# Altium footprint library NSC Audio.PcbLib: 147 footprints (part 9 of 10)
Each footprint in its own frame and in the unit in brackets; x right, y up, seen from the top. Pads: shape width x height; smd on the part's side, far side on the other; paste and mask are expansions set on the pad; w line width, h text height; cw(c..) or ccw(c..) is an arc to the next point about the centre after c.
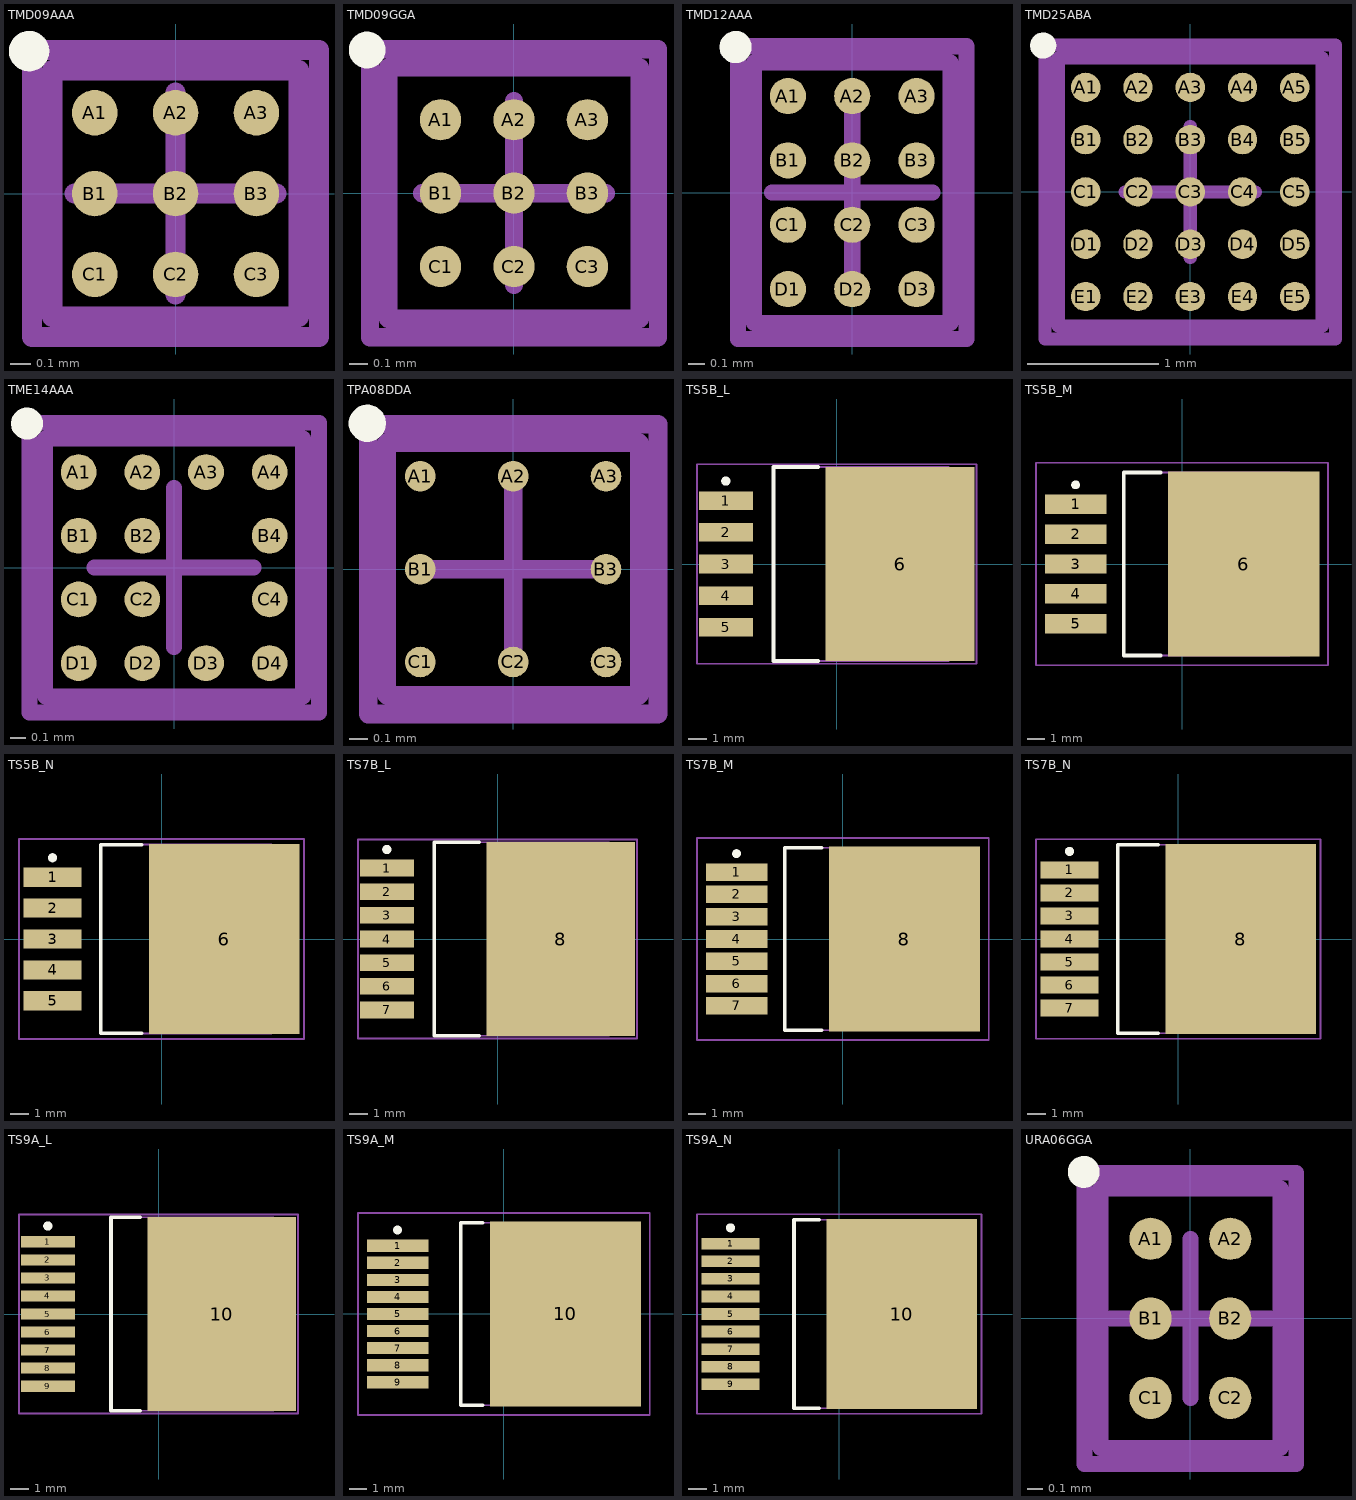
[diagram p8: the footprints below, top view; thin cyan lines are the x and y axes]

## TMD09AAA [mm] "Micro SMD, 9-Leads, Body 1.22x1.22mm, Pitch 0.4mm, NSC Recommended"
height 0.68
pads (9):
  round 0.225 smd paste-0.112 mask+0.05: A1(-0.4,0.4) A2(0,0.4) A3(0.4,0.4) B1(-0.4,0) B2(0,0) B3(0.4,0) C1(-0.4,-0.4) C2(0,-0.4) C3(0.4,-0.4)
Top Overlay:
  circle w0.1: c-0.725,0.705 r0.05
Top Paste:
  circle w0.05: c0.35,-0.075 r0.025
  circle w0.05: c0.5,0.075 r0.025
  circle w0.05: c0.35,0.075 r0.025
  circle w0.05: c0.5,-0.075 r0.025
  circle w0.05: c-0.075,-0.35 r0.025
  circle w0.05: c0.075,-0.5 r0.025
  circle w0.05: c0.075,-0.35 r0.025
  circle w0.05: c-0.075,-0.5 r0.025
  circle w0.05: c-0.35,0.075 r0.025
  circle w0.05: c-0.5,-0.075 r0.025
  circle w0.05: c-0.35,-0.075 r0.025
  circle w0.05: c-0.5,0.075 r0.025
  circle w0.05: c0.075,0.35 r0.025
  circle w0.05: c-0.075,0.5 r0.025
  circle w0.05: c-0.075,0.35 r0.025
  circle w0.05: c0.075,0.5 r0.025
  circle w0.05: c-0.35,0.35 r0.025
  circle w0.05: c-0.5,0.5 r0.025
  circle w0.05: c-0.5,0.35 r0.025
  circle w0.05: c-0.35,0.5 r0.025
  circle w0.05: c0.35,0.35 r0.025
  circle w0.05: c0.5,0.5 r0.025
  circle w0.05: c0.5,0.35 r0.025
  circle w0.05: c0.35,0.5 r0.025
  circle w0.05: c0.35,-0.35 r0.025
  circle w0.05: c0.5,-0.5 r0.025
  circle w0.05: c0.5,-0.35 r0.025
  circle w0.05: c0.35,-0.5 r0.025
  circle w0.05: c-0.35,-0.35 r0.025
  circle w0.05: c-0.5,-0.5 r0.025
  circle w0.05: c-0.5,-0.35 r0.025
  circle w0.05: c-0.35,-0.5 r0.025
  circle w0.05: c0.075,0.075 r0.025
  circle w0.05: c-0.075,-0.075 r0.025
  circle w0.05: c-0.075,0.075 r0.025
  circle w0.05: c0.075,-0.075 r0.025
  region: 0.5,0.075 0.35,0.075 0.35,-0.075 0.5,-0.075
  rectangle: 0.35,-0.125 0.5,-0.075
  region: 0.55,-0.075 0.55,0.075 0.5,0.075 0.5,-0.075
  region: 0.5,0.125 0.35,0.125 0.35,0.075 0.5,0.075
  region: 0.3,0.075 0.3,-0.075 0.35,-0.075 0.35,0.075
  region: 0.075,-0.5 0.075,-0.35 -0.075,-0.35 -0.075,-0.5
  region: -0.125,-0.35 -0.125,-0.5 -0.075,-0.5 -0.075,-0.35
  rectangle: -0.075,-0.55 0.075,-0.5
  region: 0.125,-0.5 0.125,-0.35 0.075,-0.35 0.075,-0.5
  region: 0.075,-0.3 -0.075,-0.3 -0.075,-0.35 0.075,-0.35
  rectangle: -0.5,-0.075 -0.35,0.075
  region: -0.35,0.125 -0.5,0.125 -0.5,0.075 -0.35,0.075
  region: -0.55,0.075 -0.55,-0.075 -0.5,-0.075 -0.5,0.075
  rectangle: -0.5,-0.125 -0.35,-0.075
  region: -0.3,-0.075 -0.3,0.075 -0.35,0.075 -0.35,-0.075
  region: -0.075,0.5 -0.075,0.35 0.075,0.35 0.075,0.5
  region: 0.125,0.35 0.125,0.5 0.075,0.5 0.075,0.35
  region: 0.075,0.55 -0.075,0.55 -0.075,0.5 0.075,0.5
  region: -0.125,0.5 -0.125,0.35 -0.075,0.35 -0.075,0.5
  rectangle: -0.075,0.3 0.075,0.35
  region: -0.5,0.5 -0.5,0.35 -0.35,0.35 -0.35,0.5
  region: -0.3,0.35 -0.3,0.5 -0.35,0.5 -0.35,0.35
  region: -0.35,0.55 -0.5,0.55 -0.5,0.5 -0.35,0.5
  region: -0.55,0.5 -0.55,0.35 -0.5,0.35 -0.5,0.5
  rectangle: -0.5,0.3 -0.35,0.35
  region: 0.35,0.5 0.35,0.35 0.5,0.35 0.5,0.5
  region: 0.35,0.35 0.35,0.5 0.3,0.5 0.3,0.35
  rectangle: 0.35,0.5 0.5,0.55
  region: 0.5,0.5 0.5,0.35 0.55,0.35 0.55,0.5
  region: 0.5,0.35 0.35,0.35 0.35,0.3 0.5,0.3
  region: 0.5,-0.5 0.5,-0.35 0.35,-0.35 0.35,-0.5
  region: 0.3,-0.35 0.3,-0.5 0.35,-0.5 0.35,-0.35
  rectangle: 0.35,-0.55 0.5,-0.5
  region: 0.55,-0.5 0.55,-0.35 0.5,-0.35 0.5,-0.5
  region: 0.5,-0.3 0.35,-0.3 0.35,-0.35 0.5,-0.35
  region: -0.35,-0.5 -0.35,-0.35 -0.5,-0.35 -0.5,-0.5
  region: -0.35,-0.35 -0.35,-0.5 -0.3,-0.5 -0.3,-0.35
  region: -0.35,-0.5 -0.5,-0.5 -0.5,-0.55 -0.35,-0.55
  region: -0.5,-0.5 -0.5,-0.35 -0.55,-0.35 -0.55,-0.5
  rectangle: -0.5,-0.35 -0.35,-0.3
  rectangle: -0.075,-0.125 0.075,-0.075
  region: -0.125,0.075 -0.125,-0.075 -0.075,-0.075 -0.075,0.075
  region: 0.075,0.125 -0.075,0.125 -0.075,0.075 0.075,0.075
  region: 0.125,-0.075 0.125,0.075 0.075,0.075 0.075,-0.075
  region: -0.075,0.075 -0.075,-0.075 0.075,-0.075 0.075,0.075
Mechanical 13:
  lines w0.1: -0.61,-0.61 -0.61,0.61 0.61,0.61 0.61,-0.61 -0.61,-0.61
Mechanical 15:
  lines w0.1: -0.5,0 0.5,0 ; 0,-0.5 0,0.5 ; -0.71,-0.71 -0.71,0.71 0.71,0.71 0.71,-0.71 -0.71,-0.71
3D body: height 0.68, standoff 0, extent -0.609,-0.609 0.609,0.609

## TMD09GGA [mm] "Micro SMD, 9-Leads, Body 1.37x1.37mm, Pitch 0.4mm, NSC Recommended"
height 0.68
pads (9):
  round 0.225 smd paste-0.112 mask+0.05: A1(-0.4,0.4) A2(0,0.4) A3(0.4,0.4) B1(-0.4,0) B2(0,0) B3(0.4,0) C1(-0.4,-0.4) C2(0,-0.4) C3(0.4,-0.4)
Top Overlay:
  circle w0.1: c-0.8,0.78 r0.05
Top Paste:
  circle w0.05: c0.075,-0.075 r0.025
  circle w0.05: c-0.075,0.075 r0.025
  circle w0.05: c-0.075,-0.075 r0.025
  circle w0.05: c0.075,0.075 r0.025
  circle w0.05: c-0.35,0.35 r0.025
  circle w0.05: c-0.5,0.5 r0.025
  circle w0.05: c-0.5,0.35 r0.025
  circle w0.05: c-0.35,0.5 r0.025
  circle w0.05: c0.35,0.35 r0.025
  circle w0.05: c0.5,0.5 r0.025
  circle w0.05: c0.5,0.35 r0.025
  circle w0.05: c0.35,0.5 r0.025
  circle w0.05: c0.35,-0.35 r0.025
  circle w0.05: c0.5,-0.5 r0.025
  circle w0.05: c0.5,-0.35 r0.025
  circle w0.05: c0.35,-0.5 r0.025
  circle w0.05: c-0.35,-0.35 r0.025
  circle w0.05: c-0.5,-0.5 r0.025
  circle w0.05: c-0.5,-0.35 r0.025
  circle w0.05: c-0.35,-0.5 r0.025
  circle w0.05: c0.5,-0.075 r0.025
  circle w0.05: c0.35,0.075 r0.025
  circle w0.05: c0.5,0.075 r0.025
  circle w0.05: c0.35,-0.075 r0.025
  circle w0.05: c0.075,0.5 r0.025
  circle w0.05: c-0.075,0.35 r0.025
  circle w0.05: c-0.075,0.5 r0.025
  circle w0.05: c0.075,0.35 r0.025
  circle w0.05: c-0.5,0.075 r0.025
  circle w0.05: c-0.35,-0.075 r0.025
  circle w0.05: c-0.5,-0.075 r0.025
  circle w0.05: c-0.35,0.075 r0.025
  circle w0.05: c-0.075,-0.5 r0.025
  circle w0.05: c0.075,-0.35 r0.025
  circle w0.05: c0.075,-0.5 r0.025
  circle w0.05: c-0.075,-0.35 r0.025
  region: -0.075,0.075 -0.075,-0.075 0.075,-0.075 0.075,0.075
  region: 0.125,-0.075 0.125,0.075 0.075,0.075 0.075,-0.075
  region: 0.075,0.125 -0.075,0.125 -0.075,0.075 0.075,0.075
  region: -0.125,0.075 -0.125,-0.075 -0.075,-0.075 -0.075,0.075
  rectangle: -0.075,-0.125 0.075,-0.075
  region: -0.5,0.5 -0.5,0.35 -0.35,0.35 -0.35,0.5
  region: -0.3,0.35 -0.3,0.5 -0.35,0.5 -0.35,0.35
  region: -0.35,0.55 -0.5,0.55 -0.5,0.5 -0.35,0.5
  region: -0.55,0.5 -0.55,0.35 -0.5,0.35 -0.5,0.5
  rectangle: -0.5,0.3 -0.35,0.35
  region: 0.35,0.5 0.35,0.35 0.5,0.35 0.5,0.5
  region: 0.35,0.35 0.35,0.5 0.3,0.5 0.3,0.35
  rectangle: 0.35,0.5 0.5,0.55
  region: 0.5,0.5 0.5,0.35 0.55,0.35 0.55,0.5
  region: 0.5,0.35 0.35,0.35 0.35,0.3 0.5,0.3
  region: 0.5,-0.5 0.5,-0.35 0.35,-0.35 0.35,-0.5
  region: 0.3,-0.35 0.3,-0.5 0.35,-0.5 0.35,-0.35
  rectangle: 0.35,-0.55 0.5,-0.5
  region: 0.55,-0.5 0.55,-0.35 0.5,-0.35 0.5,-0.5
  region: 0.5,-0.3 0.35,-0.3 0.35,-0.35 0.5,-0.35
  region: -0.35,-0.5 -0.35,-0.35 -0.5,-0.35 -0.5,-0.5
  region: -0.35,-0.35 -0.35,-0.5 -0.3,-0.5 -0.3,-0.35
  region: -0.35,-0.5 -0.5,-0.5 -0.5,-0.55 -0.35,-0.55
  region: -0.5,-0.5 -0.5,-0.35 -0.55,-0.35 -0.55,-0.5
  rectangle: -0.5,-0.35 -0.35,-0.3
  region: 0.3,0.075 0.3,-0.075 0.35,-0.075 0.35,0.075
  region: 0.5,0.125 0.35,0.125 0.35,0.075 0.5,0.075
  region: 0.55,-0.075 0.55,0.075 0.5,0.075 0.5,-0.075
  rectangle: 0.35,-0.125 0.5,-0.075
  region: 0.5,0.075 0.35,0.075 0.35,-0.075 0.5,-0.075
  rectangle: -0.075,0.3 0.075,0.35
  region: -0.125,0.5 -0.125,0.35 -0.075,0.35 -0.075,0.5
  region: 0.075,0.55 -0.075,0.55 -0.075,0.5 0.075,0.5
  region: 0.125,0.35 0.125,0.5 0.075,0.5 0.075,0.35
  region: -0.075,0.5 -0.075,0.35 0.075,0.35 0.075,0.5
  region: -0.3,-0.075 -0.3,0.075 -0.35,0.075 -0.35,-0.075
  rectangle: -0.5,-0.125 -0.35,-0.075
  region: -0.55,0.075 -0.55,-0.075 -0.5,-0.075 -0.5,0.075
  region: -0.35,0.125 -0.5,0.125 -0.5,0.075 -0.35,0.075
  rectangle: -0.5,-0.075 -0.35,0.075
  region: 0.075,-0.3 -0.075,-0.3 -0.075,-0.35 0.075,-0.35
  region: 0.125,-0.5 0.125,-0.35 0.075,-0.35 0.075,-0.5
  rectangle: -0.075,-0.55 0.075,-0.5
  region: -0.125,-0.35 -0.125,-0.5 -0.075,-0.5 -0.075,-0.35
  region: 0.075,-0.5 0.075,-0.35 -0.075,-0.35 -0.075,-0.5
Mechanical 13:
  lines w0.1: -0.685,-0.685 -0.685,0.685 0.685,0.685 0.685,-0.685 -0.685,-0.685
Mechanical 15:
  lines w0.1: -0.5,0 0.5,0 ; 0,-0.5 0,0.5 ; -0.785,-0.785 -0.785,0.785 0.785,0.785 0.785,-0.785 -0.785,-0.785
3D body: height 0.68, standoff 0, extent -0.684,-0.684 0.684,0.684

## TMD12AAA [mm] "Micro SMD, 12-Leads, Body 1.62x1.22mm, Pitch 0.4mm, NSC Recommended"
height 0.68
pads (12):
  round 0.225 smd paste-0.112 mask+0.05: A1(-0.4,0.6) A2(0,0.6) A3(0.4,0.6) B1(-0.4,0.2) B2(0,0.2) B3(0.4,0.2) C1(-0.4,-0.2) C2(0,-0.2) C3(0.4,-0.2) D1(-0.4,-0.6) D2(0,-0.6) D3(0.4,-0.6)
Top Overlay:
  circle w0.1: c-0.725,0.905 r0.05
Top Paste:
  circle w0.05: c0.075,-0.275 r0.025
  circle w0.05: c-0.075,-0.125 r0.025
  circle w0.05: c-0.075,-0.275 r0.025
  circle w0.05: c0.075,-0.125 r0.025
  circle w0.05: c0.075,0.125 r0.025
  circle w0.05: c-0.075,0.275 r0.025
  circle w0.05: c-0.075,0.125 r0.025
  circle w0.05: c0.075,0.275 r0.025
  circle w0.05: c-0.35,-0.125 r0.025
  circle w0.05: c-0.5,-0.275 r0.025
  circle w0.05: c-0.35,-0.275 r0.025
  circle w0.05: c-0.5,-0.125 r0.025
  circle w0.05: c-0.35,0.275 r0.025
  circle w0.05: c-0.5,0.125 r0.025
  circle w0.05: c-0.35,0.125 r0.025
  circle w0.05: c-0.5,0.275 r0.025
  circle w0.05: c0.075,0.55 r0.025
  circle w0.05: c-0.075,0.7 r0.025
  circle w0.05: c-0.075,0.55 r0.025
  circle w0.05: c0.075,0.7 r0.025
  circle w0.05: c0.35,0.125 r0.025
  circle w0.05: c0.5,0.275 r0.025
  circle w0.05: c0.35,0.275 r0.025
  circle w0.05: c0.5,0.125 r0.025
  circle w0.05: c0.35,-0.275 r0.025
  circle w0.05: c0.5,-0.125 r0.025
  circle w0.05: c0.35,-0.125 r0.025
  circle w0.05: c0.5,-0.275 r0.025
  circle w0.05: c-0.075,-0.55 r0.025
  circle w0.05: c0.075,-0.7 r0.025
  circle w0.05: c0.075,-0.55 r0.025
  circle w0.05: c-0.075,-0.7 r0.025
  circle w0.05: c-0.35,-0.55 r0.025
  circle w0.05: c-0.5,-0.7 r0.025
  circle w0.05: c-0.5,-0.55 r0.025
  circle w0.05: c-0.35,-0.7 r0.025
  circle w0.05: c-0.35,0.55 r0.025
  circle w0.05: c-0.5,0.7 r0.025
  circle w0.05: c-0.5,0.55 r0.025
  circle w0.05: c-0.35,0.7 r0.025
  circle w0.05: c0.35,0.55 r0.025
  circle w0.05: c0.5,0.7 r0.025
  circle w0.05: c0.5,0.55 r0.025
  circle w0.05: c0.35,0.7 r0.025
  circle w0.05: c0.35,-0.55 r0.025
  circle w0.05: c0.5,-0.7 r0.025
  circle w0.05: c0.5,-0.55 r0.025
  circle w0.05: c0.35,-0.7 r0.025
  region: -0.075,-0.125 -0.075,-0.275 0.075,-0.275 0.075,-0.125
  region: 0.125,-0.275 0.125,-0.125 0.075,-0.125 0.075,-0.275
  region: 0.075,-0.075 -0.075,-0.075 -0.075,-0.125 0.075,-0.125
  region: -0.125,-0.125 -0.125,-0.275 -0.075,-0.275 -0.075,-0.125
  rectangle: -0.075,-0.325 0.075,-0.275
  region: -0.075,0.275 -0.075,0.125 0.075,0.125 0.075,0.275
  region: 0.125,0.125 0.125,0.275 0.075,0.275 0.075,0.125
  region: 0.075,0.325 -0.075,0.325 -0.075,0.275 0.075,0.275
  region: -0.125,0.275 -0.125,0.125 -0.075,0.125 -0.075,0.275
  rectangle: -0.075,0.075 0.075,0.125
  rectangle: -0.5,-0.275 -0.35,-0.125
  region: -0.35,-0.075 -0.5,-0.075 -0.5,-0.125 -0.35,-0.125
  region: -0.55,-0.125 -0.55,-0.275 -0.5,-0.275 -0.5,-0.125
  rectangle: -0.5,-0.325 -0.35,-0.275
  region: -0.3,-0.275 -0.3,-0.125 -0.35,-0.125 -0.35,-0.275
  rectangle: -0.5,0.125 -0.35,0.275
  region: -0.35,0.325 -0.5,0.325 -0.5,0.275 -0.35,0.275
  region: -0.55,0.275 -0.55,0.125 -0.5,0.125 -0.5,0.275
  rectangle: -0.5,0.075 -0.35,0.125
  region: -0.3,0.125 -0.3,0.275 -0.35,0.275 -0.35,0.125
  region: -0.075,0.7 -0.075,0.55 0.075,0.55 0.075,0.7
  region: 0.125,0.55 0.125,0.7 0.075,0.7 0.075,0.55
  region: 0.075,0.75 -0.075,0.75 -0.075,0.7 0.075,0.7
  region: -0.125,0.7 -0.125,0.55 -0.075,0.55 -0.075,0.7
  rectangle: -0.075,0.5 0.075,0.55
  region: 0.5,0.275 0.35,0.275 0.35,0.125 0.5,0.125
  rectangle: 0.35,0.075 0.5,0.125
  region: 0.55,0.125 0.55,0.275 0.5,0.275 0.5,0.125
  region: 0.5,0.325 0.35,0.325 0.35,0.275 0.5,0.275
  region: 0.3,0.275 0.3,0.125 0.35,0.125 0.35,0.275
  region: 0.5,-0.125 0.35,-0.125 0.35,-0.275 0.5,-0.275
  rectangle: 0.35,-0.325 0.5,-0.275
  region: 0.55,-0.275 0.55,-0.125 0.5,-0.125 0.5,-0.275
  region: 0.5,-0.075 0.35,-0.075 0.35,-0.125 0.5,-0.125
  region: 0.3,-0.125 0.3,-0.275 0.35,-0.275 0.35,-0.125
  region: 0.075,-0.7 0.075,-0.55 -0.075,-0.55 -0.075,-0.7
  region: -0.125,-0.55 -0.125,-0.7 -0.075,-0.7 -0.075,-0.55
  rectangle: -0.075,-0.75 0.075,-0.7
  region: 0.125,-0.7 0.125,-0.55 0.075,-0.55 0.075,-0.7
  region: 0.075,-0.5 -0.075,-0.5 -0.075,-0.55 0.075,-0.55
  region: -0.35,-0.7 -0.35,-0.55 -0.5,-0.55 -0.5,-0.7
  region: -0.35,-0.55 -0.35,-0.7 -0.3,-0.7 -0.3,-0.55
  region: -0.35,-0.7 -0.5,-0.7 -0.5,-0.75 -0.35,-0.75
  region: -0.5,-0.7 -0.5,-0.55 -0.55,-0.55 -0.55,-0.7
  rectangle: -0.5,-0.55 -0.35,-0.5
  region: -0.5,0.7 -0.5,0.55 -0.35,0.55 -0.35,0.7
  region: -0.3,0.55 -0.3,0.7 -0.35,0.7 -0.35,0.55
  region: -0.35,0.75 -0.5,0.75 -0.5,0.7 -0.35,0.7
  region: -0.55,0.7 -0.55,0.55 -0.5,0.55 -0.5,0.7
  rectangle: -0.5,0.5 -0.35,0.55
  region: 0.35,0.7 0.35,0.55 0.5,0.55 0.5,0.7
  region: 0.35,0.55 0.35,0.7 0.3,0.7 0.3,0.55
  rectangle: 0.35,0.7 0.5,0.75
  region: 0.5,0.7 0.5,0.55 0.55,0.55 0.55,0.7
  region: 0.5,0.55 0.35,0.55 0.35,0.5 0.5,0.5
  region: 0.5,-0.7 0.5,-0.55 0.35,-0.55 0.35,-0.7
  region: 0.3,-0.55 0.3,-0.7 0.35,-0.7 0.35,-0.55
  rectangle: 0.35,-0.75 0.5,-0.7
  region: 0.55,-0.7 0.55,-0.55 0.5,-0.55 0.5,-0.7
  region: 0.5,-0.5 0.35,-0.5 0.35,-0.55 0.5,-0.55
Mechanical 13:
  lines w0.1: -0.61,-0.81 0.61,-0.81 0.61,0.81 -0.61,0.81 -0.61,-0.81
Mechanical 15:
  lines w0.1: -0.5,0 0.5,0 ; 0,-0.5 0,0.5 ; -0.71,-0.91 0.71,-0.91 0.71,0.91 -0.71,0.91 -0.71,-0.91
3D body: height 0.68, standoff 0, extent -0.609,-0.809 0.609,0.809

## TMD25ABA [mm] "Micro SMD, 25-Leads, Body 2.05x2.02mm, Pitch 0.4mm, NSC Recommended"
height 0.68
pads (25):
  round 0.225 smd paste-0.112 mask+0.05: A1(-0.8,0.8) A2(-0.4,0.8) A3(0,0.8) A4(0.4,0.8) A5(0.8,0.8) B1(-0.8,0.4) B2(-0.4,0.4) B3(0,0.4) B4(0.4,0.4) B5(0.8,0.4) C1(-0.8,0) C2(-0.4,0) C3(0,0) C4(0.4,0) C5(0.8,0) D1(-0.8,-0.4) D2(-0.4,-0.4) D3(0,-0.4) D4(0.4,-0.4) D5(0.8,-0.4) E1(-0.8,-0.8) E2(-0.4,-0.8) E3(0,-0.8) E4(0.4,-0.8) E5(0.8,-0.8)
Top Overlay:
  circle w0.1: c-1.125,1.12 r0.05
Top Paste:
  drawing of 225 lines, arcs and shapes, not listed
Mechanical 13:
  lines w0.1: -1.01,-1.025 -1.01,1.025 1.01,1.025 1.01,-1.025 -1.01,-1.025
Mechanical 15:
  lines w0.1: -0.5,0 0.5,0 ; 0,-0.5 0,0.5 ; -1.11,-1.125 -1.11,1.125 1.11,1.125 1.11,-1.125 -1.11,-1.125
3D body: height 0.68, standoff 0, extent -1.009,-1.024 1.009,1.024

## TME14AAA [mm] "Micro SMD, 14-Leads, Body 1.62x1.62mm, Pitch 0.4mm, NSC Recommended"
height 0.68
pads (14):
  round 0.225 smd paste-0.112 mask+0.05: A1(-0.6,0.6) A2(-0.2,0.6) A3(0.2,0.6) A4(0.6,0.6) B1(-0.6,0.2) B2(-0.2,0.2) B4(0.6,0.2) C1(-0.6,-0.2) C2(-0.2,-0.2) C4(0.6,-0.2) D1(-0.6,-0.6) D2(-0.2,-0.6) D3(0.2,-0.6) D4(0.6,-0.6)
Top Overlay:
  circle w0.1: c-0.925,0.905 r0.05
Top Paste:
  circle w0.05: c-0.125,-0.275 r0.025
  circle w0.05: c-0.275,-0.125 r0.025
  circle w0.05: c-0.275,-0.275 r0.025
  circle w0.05: c-0.125,-0.125 r0.025
  circle w0.05: c-0.125,0.125 r0.025
  circle w0.05: c-0.275,0.275 r0.025
  circle w0.05: c-0.275,0.125 r0.025
  circle w0.05: c-0.125,0.275 r0.025
  circle w0.05: c0.275,-0.55 r0.025
  circle w0.05: c0.125,-0.7 r0.025
  circle w0.05: c0.125,-0.55 r0.025
  circle w0.05: c0.275,-0.7 r0.025
  circle w0.05: c-0.125,0.55 r0.025
  circle w0.05: c-0.275,0.7 r0.025
  circle w0.05: c-0.275,0.55 r0.025
  circle w0.05: c-0.125,0.7 r0.025
  circle w0.05: c0.275,0.55 r0.025
  circle w0.05: c0.125,0.7 r0.025
  circle w0.05: c0.125,0.55 r0.025
  circle w0.05: c0.275,0.7 r0.025
  circle w0.05: c0.55,0.125 r0.025
  circle w0.05: c0.7,0.275 r0.025
  circle w0.05: c0.55,0.275 r0.025
  circle w0.05: c0.7,0.125 r0.025
  circle w0.05: c0.55,-0.275 r0.025
  circle w0.05: c0.7,-0.125 r0.025
  circle w0.05: c0.55,-0.125 r0.025
  circle w0.05: c0.7,-0.275 r0.025
  circle w0.05: c-0.275,-0.55 r0.025
  circle w0.05: c-0.125,-0.7 r0.025
  circle w0.05: c-0.125,-0.55 r0.025
  circle w0.05: c-0.275,-0.7 r0.025
  circle w0.05: c-0.55,-0.125 r0.025
  circle w0.05: c-0.7,-0.275 r0.025
  circle w0.05: c-0.55,-0.275 r0.025
  circle w0.05: c-0.7,-0.125 r0.025
  circle w0.05: c-0.55,0.275 r0.025
  circle w0.05: c-0.7,0.125 r0.025
  circle w0.05: c-0.55,0.125 r0.025
  circle w0.05: c-0.7,0.275 r0.025
  circle w0.05: c0.55,-0.55 r0.025
  circle w0.05: c0.7,-0.7 r0.025
  circle w0.05: c0.7,-0.55 r0.025
  circle w0.05: c0.55,-0.7 r0.025
  circle w0.05: c-0.55,-0.55 r0.025
  circle w0.05: c-0.7,-0.7 r0.025
  circle w0.05: c-0.7,-0.55 r0.025
  circle w0.05: c-0.55,-0.7 r0.025
  circle w0.05: c-0.55,0.55 r0.025
  circle w0.05: c-0.7,0.7 r0.025
  circle w0.05: c-0.7,0.55 r0.025
  circle w0.05: c-0.55,0.7 r0.025
  circle w0.05: c0.55,0.55 r0.025
  circle w0.05: c0.7,0.7 r0.025
  circle w0.05: c0.7,0.55 r0.025
  circle w0.05: c0.55,0.7 r0.025
  region: -0.275,-0.125 -0.275,-0.275 -0.125,-0.275 -0.125,-0.125
  region: -0.075,-0.275 -0.075,-0.125 -0.125,-0.125 -0.125,-0.275
  region: -0.125,-0.075 -0.275,-0.075 -0.275,-0.125 -0.125,-0.125
  region: -0.325,-0.125 -0.325,-0.275 -0.275,-0.275 -0.275,-0.125
  rectangle: -0.275,-0.325 -0.125,-0.275
  region: -0.275,0.275 -0.275,0.125 -0.125,0.125 -0.125,0.275
  region: -0.075,0.125 -0.075,0.275 -0.125,0.275 -0.125,0.125
  region: -0.125,0.325 -0.275,0.325 -0.275,0.275 -0.125,0.275
  region: -0.325,0.275 -0.325,0.125 -0.275,0.125 -0.275,0.275
  rectangle: -0.275,0.075 -0.125,0.125
  region: 0.275,-0.7 0.275,-0.55 0.125,-0.55 0.125,-0.7
  region: 0.275,-0.55 0.275,-0.7 0.325,-0.7 0.325,-0.55
  region: 0.275,-0.7 0.125,-0.7 0.125,-0.75 0.275,-0.75
  region: 0.125,-0.7 0.125,-0.55 0.075,-0.55 0.075,-0.7
  rectangle: 0.125,-0.55 0.275,-0.5
  region: -0.275,0.7 -0.275,0.55 -0.125,0.55 -0.125,0.7
  region: -0.075,0.55 -0.075,0.7 -0.125,0.7 -0.125,0.55
  region: -0.125,0.75 -0.275,0.75 -0.275,0.7 -0.125,0.7
  region: -0.325,0.7 -0.325,0.55 -0.275,0.55 -0.275,0.7
  rectangle: -0.275,0.5 -0.125,0.55
  region: 0.125,0.7 0.125,0.55 0.275,0.55 0.275,0.7
  region: 0.325,0.55 0.325,0.7 0.275,0.7 0.275,0.55
  region: 0.275,0.75 0.125,0.75 0.125,0.7 0.275,0.7
  region: 0.075,0.7 0.075,0.55 0.125,0.55 0.125,0.7
  rectangle: 0.125,0.5 0.275,0.55
  region: 0.7,0.275 0.55,0.275 0.55,0.125 0.7,0.125
  rectangle: 0.55,0.075 0.7,0.125
  region: 0.75,0.125 0.75,0.275 0.7,0.275 0.7,0.125
  region: 0.7,0.325 0.55,0.325 0.55,0.275 0.7,0.275
  region: 0.5,0.275 0.5,0.125 0.55,0.125 0.55,0.275
  region: 0.7,-0.125 0.55,-0.125 0.55,-0.275 0.7,-0.275
  rectangle: 0.55,-0.325 0.7,-0.275
  region: 0.75,-0.275 0.75,-0.125 0.7,-0.125 0.7,-0.275
  region: 0.7,-0.075 0.55,-0.075 0.55,-0.125 0.7,-0.125
  region: 0.5,-0.125 0.5,-0.275 0.55,-0.275 0.55,-0.125
  region: -0.125,-0.7 -0.125,-0.55 -0.275,-0.55 -0.275,-0.7
  region: -0.325,-0.55 -0.325,-0.7 -0.275,-0.7 -0.275,-0.55
  rectangle: -0.275,-0.75 -0.125,-0.7
  region: -0.075,-0.7 -0.075,-0.55 -0.125,-0.55 -0.125,-0.7
  region: -0.125,-0.5 -0.275,-0.5 -0.275,-0.55 -0.125,-0.55
  rectangle: -0.7,-0.275 -0.55,-0.125
  region: -0.55,-0.075 -0.7,-0.075 -0.7,-0.125 -0.55,-0.125
  region: -0.75,-0.125 -0.75,-0.275 -0.7,-0.275 -0.7,-0.125
  rectangle: -0.7,-0.325 -0.55,-0.275
  region: -0.5,-0.275 -0.5,-0.125 -0.55,-0.125 -0.55,-0.275
  rectangle: -0.7,0.125 -0.55,0.275
  region: -0.55,0.325 -0.7,0.325 -0.7,0.275 -0.55,0.275
  region: -0.75,0.275 -0.75,0.125 -0.7,0.125 -0.7,0.275
  rectangle: -0.7,0.075 -0.55,0.125
  region: -0.5,0.125 -0.5,0.275 -0.55,0.275 -0.55,0.125
  region: 0.7,-0.7 0.7,-0.55 0.55,-0.55 0.55,-0.7
  region: 0.5,-0.55 0.5,-0.7 0.55,-0.7 0.55,-0.55
  rectangle: 0.55,-0.75 0.7,-0.7
  region: 0.75,-0.7 0.75,-0.55 0.7,-0.55 0.7,-0.7
  region: 0.7,-0.5 0.55,-0.5 0.55,-0.55 0.7,-0.55
  region: -0.55,-0.7 -0.55,-0.55 -0.7,-0.55 -0.7,-0.7
  region: -0.55,-0.55 -0.55,-0.7 -0.5,-0.7 -0.5,-0.55
  region: -0.55,-0.7 -0.7,-0.7 -0.7,-0.75 -0.55,-0.75
  region: -0.7,-0.7 -0.7,-0.55 -0.75,-0.55 -0.75,-0.7
  rectangle: -0.7,-0.55 -0.55,-0.5
  region: -0.7,0.7 -0.7,0.55 -0.55,0.55 -0.55,0.7
  region: -0.5,0.55 -0.5,0.7 -0.55,0.7 -0.55,0.55
  region: -0.55,0.75 -0.7,0.75 -0.7,0.7 -0.55,0.7
  region: -0.75,0.7 -0.75,0.55 -0.7,0.55 -0.7,0.7
  rectangle: -0.7,0.5 -0.55,0.55
  region: 0.55,0.7 0.55,0.55 0.7,0.55 0.7,0.7
  region: 0.55,0.55 0.55,0.7 0.5,0.7 0.5,0.55
  rectangle: 0.55,0.7 0.7,0.75
  region: 0.7,0.7 0.7,0.55 0.75,0.55 0.75,0.7
  region: 0.7,0.55 0.55,0.55 0.55,0.5 0.7,0.5
Mechanical 13:
  lines w0.1: -0.81,-0.81 -0.81,0.81 0.81,0.81 0.81,-0.81 -0.81,-0.81
Mechanical 15:
  lines w0.1: -0.5,0 0.5,0 ; 0,-0.5 0,0.5 ; -0.91,-0.91 -0.91,0.91 0.91,0.91 0.91,-0.91 -0.91,-0.91
3D body: height 0.68, standoff 0, extent -0.809,-0.809 0.809,0.809

## TPA08DDA [mm] "Micro SMD, 8-Leads, Body 1.36x1.36mm, Pitch 0.5mm, NSC Recommended"
height 0.58
pads (8):
  round 0.165 smd paste-0.082 mask+0.05: A1(-0.5,0.5) A2(0,0.5) A3(0.5,0.5) B1(-0.5,0) B3(0.5,0) C1(-0.5,-0.5) C2(0,-0.5) C3(0.5,-0.5)
Top Overlay:
  circle w0.1: c-0.785,0.785 r0.05
Top Paste:
  circle w0.05: c-0.425,-0.1 r0.025
  circle w0.05: c-0.625,0.1 r0.025
  circle w0.05: c-0.625,-0.1 r0.025
  circle w0.05: c-0.425,0.1 r0.025
  circle w0.05: c0.625,0.1 r0.025
  circle w0.05: c0.425,-0.1 r0.025
  circle w0.05: c0.425,0.1 r0.025
  circle w0.05: c0.625,-0.1 r0.025
  circle w0.05: c0.625,-0.625 r0.025
  circle w0.05: c0.425,-0.425 r0.025
  circle w0.05: c0.425,-0.625 r0.025
  circle w0.05: c0.625,-0.425 r0.025
  circle w0.05: c-0.425,-0.625 r0.025
  circle w0.05: c-0.625,-0.425 r0.025
  circle w0.05: c-0.625,-0.625 r0.025
  circle w0.05: c-0.425,-0.425 r0.025
  circle w0.05: c0.1,-0.625 r0.025
  circle w0.05: c-0.1,-0.425 r0.025
  circle w0.05: c-0.1,-0.625 r0.025
  circle w0.05: c0.1,-0.425 r0.025
  circle w0.05: c0.1,0.625 r0.025
  circle w0.05: c-0.1,0.425 r0.025
  circle w0.05: c-0.1,0.625 r0.025
  circle w0.05: c0.1,0.425 r0.025
  circle w0.05: c-0.425,0.625 r0.025
  circle w0.05: c-0.625,0.425 r0.025
  circle w0.05: c-0.625,0.625 r0.025
  circle w0.05: c-0.425,0.425 r0.025
  circle w0.05: c0.625,0.625 r0.025
  circle w0.05: c0.425,0.425 r0.025
  circle w0.05: c0.425,0.625 r0.025
  circle w0.05: c0.625,0.425 r0.025
  rectangle: -0.625,-0.15 -0.425,-0.1
  region: -0.425,0.15 -0.625,0.15 -0.625,0.1 -0.425,0.1
  region: -0.675,0.1 -0.675,-0.1 -0.625,-0.1 -0.625,0.1
  region: -0.625,0.1 -0.625,-0.1 -0.425,-0.1 -0.425,0.1
  region: -0.375,-0.1 -0.375,0.1 -0.425,0.1 -0.425,-0.1
  region: 0.675,-0.1 0.675,0.1 0.625,0.1 0.625,-0.1
  region: 0.425,0.1 0.425,-0.1 0.625,-0.1 0.625,0.1
  region: 0.375,0.1 0.375,-0.1 0.425,-0.1 0.425,0.1
  region: 0.625,0.15 0.425,0.15 0.425,0.1 0.625,0.1
  rectangle: 0.425,-0.15 0.625,-0.1
  rectangle: 0.425,-0.675 0.625,-0.625
  region: 0.625,-0.375 0.425,-0.375 0.425,-0.425 0.625,-0.425
  region: 0.375,-0.425 0.375,-0.625 0.425,-0.625 0.425,-0.425
  region: 0.425,-0.425 0.425,-0.625 0.625,-0.625 0.625,-0.425
  region: 0.675,-0.625 0.675,-0.425 0.625,-0.425 0.625,-0.625
  rectangle: -0.625,-0.675 -0.425,-0.625
  region: -0.425,-0.375 -0.625,-0.375 -0.625,-0.425 -0.425,-0.425
  region: -0.675,-0.425 -0.675,-0.625 -0.625,-0.625 -0.625,-0.425
  region: -0.625,-0.425 -0.625,-0.625 -0.425,-0.625 -0.425,-0.425
  region: -0.375,-0.625 -0.375,-0.425 -0.425,-0.425 -0.425,-0.625
  rectangle: -0.1,-0.675 0.1,-0.625
  region: 0.1,-0.375 -0.1,-0.375 -0.1,-0.425 0.1,-0.425
  region: -0.15,-0.425 -0.15,-0.625 -0.1,-0.625 -0.1,-0.425
  region: -0.1,-0.425 -0.1,-0.625 0.1,-0.625 0.1,-0.425
  region: 0.15,-0.625 0.15,-0.425 0.1,-0.425 0.1,-0.625
  region: 0.15,0.425 0.15,0.625 0.1,0.625 0.1,0.425
  region: -0.1,0.625 -0.1,0.425 0.1,0.425 0.1,0.625
  region: -0.15,0.625 -0.15,0.425 -0.1,0.425 -0.1,0.625
  region: 0.1,0.675 -0.1,0.675 -0.1,0.625 0.1,0.625
  rectangle: -0.1,0.375 0.1,0.425
  region: -0.375,0.425 -0.375,0.625 -0.425,0.625 -0.425,0.425
  region: -0.625,0.625 -0.625,0.425 -0.425,0.425 -0.425,0.625
  region: -0.675,0.625 -0.675,0.425 -0.625,0.425 -0.625,0.625
  region: -0.425,0.675 -0.625,0.675 -0.625,0.625 -0.425,0.625
  rectangle: -0.625,0.375 -0.425,0.425
  region: 0.675,0.425 0.675,0.625 0.625,0.625 0.625,0.425
  region: 0.425,0.625 0.425,0.425 0.625,0.425 0.625,0.625
  region: 0.375,0.625 0.375,0.425 0.425,0.425 0.425,0.625
  region: 0.625,0.675 0.425,0.675 0.425,0.625 0.625,0.625
  rectangle: 0.425,0.375 0.625,0.425
Mechanical 13:
  lines w0.1: -0.68,-0.68 -0.68,0.68 0.68,0.68 0.68,-0.68 -0.68,-0.68
Mechanical 15:
  lines w0.1: -0.5,0 0.5,0 ; 0,-0.5 0,0.5 ; -0.78,-0.78 -0.78,0.78 0.78,0.78 0.78,-0.78 -0.78,-0.78
3D body: height 0.58, standoff 0, extent -0.679,-0.679 0.679,0.679

## TS5B_L [mm] "D2-PAK, 6-Leads, Body 8.6x10.2mm, Pitch 1.7mm, Lead Span 14.1mm, IPC High Density"
height 4.65
pads (6):
  rect 2.9x1 smd: 1(-5.95,3.4) 2(-5.95,1.7) 3(-5.95,0) 4(-5.95,-1.7) 5(-5.95,-3.4)
  rect 8x10.4 smd: 6(3.4,0)
Top Overlay:
  circle w0.25: c-5.95,4.45 r0.125
  lines w0.2: -1,-5.2 -3.4,-5.2 -3.4,5.2 -1,5.2
Mechanical 13:
  lines w0.1: -3.4,-5.2 -3.4,5.2 6,5.2 6,-5.2 -3.4,-5.2
Mechanical 15:
  lines w0.1: -0.5,0 0.5,0 ; 0,-0.5 0,0.5 ; -7.5,-5.35 -7.5,5.35 7.5,5.35 7.5,-5.35 -7.5,-5.35
3D body: height 4.65, standoff 0, extent -3.4,-5.2 6,5.2

## TS5B_M [mm] "D2-PAK, 6-Leads, Body 8.6x10.2mm, Pitch 1.7mm, Lead Span 14.1mm, IPC Low Density"
height 4.65
pads (6):
  rect 3.5x1.1 smd: 1(-6.05,3.4) 2(-6.05,1.7) 3(-6.05,0) 4(-6.05,-1.7) 5(-6.05,-3.4)
  rect 8.6x10.5 smd: 6(3.5,0)
Top Overlay:
  circle w0.25: c-6.05,4.5 r0.125
  lines w0.2: -1.2,-5.2 -3.3,-5.2 -3.3,5.2 -1.2,5.2
Mechanical 13:
  lines w0.1: -3.3,-5.2 6.1,-5.2 6.1,5.2 -3.3,5.2 -3.3,-5.2
Mechanical 15:
  lines w0.1: -0.5,0 0.5,0 ; 0,-0.5 0,0.5 ; -8.3,-5.75 8.3,-5.75 8.3,5.75 -8.3,5.75 -8.3,-5.75
3D body: height 4.65, standoff 0, extent -3.3,-5.2 6.1,5.2

## TS5B_N [mm] "D2-PAK, 6-Leads, Body 8.6x10.2mm, Pitch 1.7mm, Lead Span 14.1mm, IPC Medium Density"
height 4.65
pads (6):
  rect 3.2x1.05 smd: 1(-6,3.4) 2(-6,1.7) 3(-6,0) 4(-6,-1.7) 5(-6,-3.4)
  rect 8.3x10.45 smd: 6(3.45,0)
Top Overlay:
  circle w0.25: c-6,4.475 r0.125
  lines w0.2: -1.1,-5.2 -3.35,-5.2 -3.35,5.2 -1.1,5.2
Mechanical 13:
  lines w0.1: -3.35,-5.2 6.05,-5.2 6.05,5.2 -3.35,5.2 -3.35,-5.2
Mechanical 15:
  lines w0.1: -0.5,0 0.5,0 ; 0,-0.5 0,0.5 ; -7.85,-5.5 7.85,-5.5 7.85,5.5 -7.85,5.5 -7.85,-5.5
3D body: height 4.65, standoff 0, extent -3.35,-5.2 6.05,5.2

## TS7B_L [mm] "D2-PAK, 8-Leads, Body 8.6x10.2mm, Pitch 1.27mm, Lead Span 14.1mm, IPC High Density"
height 4.64
pads (8):
  rect 2.9x0.9 smd: 1(-5.95,3.81) 2(-5.95,2.54) 3(-5.95,1.27) 4(-5.95,0) 5(-5.95,-1.27) 6(-5.95,-2.54) 7(-5.95,-3.81)
  rect 8x10.45 smd: 8(3.4,0)
Top Overlay:
  circle w0.25: c-5.95,4.81 r0.125
  lines w0.2: -1,-5.2 -3.4,-5.2 -3.4,5.2 -1,5.2
Mechanical 13:
  lines w0.1: -3.4,-5.2 -3.4,5.2 6,5.2 6,-5.2 -3.4,-5.2
Mechanical 15:
  lines w0.1: -0.5,0 0.5,0 ; 0,-0.5 0,0.5 ; -7.5,-5.35 -7.5,5.35 7.5,5.35 7.5,-5.35 -7.5,-5.35
3D body: height 4.64, standoff 0, extent -3.4,-5.2 6,5.2

## TS7B_M [mm] "D2-PAK, 8-Leads, Body 8.6x10.2mm, Pitch 1.27mm, Lead Span 14.1mm, IPC Low Density"
height 4.64
pads (8):
  rect 3.5x1 smd: 1(-6.05,3.81) 2(-6.05,2.54) 3(-6.05,1.27) 4(-6.05,0) 5(-6.05,-1.27) 6(-6.05,-2.54) 7(-6.05,-3.81)
  rect 8.6x10.55 smd: 8(3.5,0)
Top Overlay:
  circle w0.25: c-6.05,4.86 r0.125
  lines w0.2: -1.2,-5.2 -3.3,-5.2 -3.3,5.2 -1.2,5.2
Mechanical 13:
  lines w0.1: -3.3,-5.2 -3.3,5.2 6.1,5.2 6.1,-5.2 -3.3,-5.2
Mechanical 15:
  lines w0.1: -0.5,0 0.5,0 ; 0,-0.5 0,0.5 ; -8.3,-5.75 -8.3,5.75 8.3,5.75 8.3,-5.75 -8.3,-5.75
3D body: height 4.64, standoff 0, extent -3.3,-5.2 6.1,5.2

## TS7B_N [mm] "D2-PAK, 8-Leads, Body 8.6x10.2mm, Pitch 1.27mm, Lead Span 14.1mm, IPC Medium Density"
height 4.64
pads (8):
  rect 3.2x0.95 smd: 1(-6,3.81) 2(-6,2.54) 3(-6,1.27) 4(-6,0) 5(-6,-1.27) 6(-6,-2.54) 7(-6,-3.81)
  rect 8.3x10.5 smd: 8(3.45,0)
Top Overlay:
  circle w0.25: c-6,4.835 r0.125
  lines w0.2: -1.1,-5.2 -3.35,-5.2 -3.35,5.2 -1.1,5.2
Mechanical 13:
  lines w0.1: -3.35,-5.2 -3.35,5.2 6.05,5.2 6.05,-5.2 -3.35,-5.2
Mechanical 15:
  lines w0.1: -0.5,0 0.5,0 ; 0,-0.5 0,0.5 ; -7.85,-5.5 -7.85,5.5 7.85,5.5 7.85,-5.5 -7.85,-5.5
3D body: height 4.64, standoff 0, extent -3.35,-5.2 6.05,5.2

## TS9A_L [mm] "D2-PAK, 10-Leads, Body 8.7x10.2mm, Pitch 0.97mm, Lead Span 14.1mm, IPC High Density"
height 4.62
pads (10):
  rect 2.9x0.6 smd: 1(-5.95,3.88) 2(-5.95,2.91) 3(-5.95,1.94) 4(-5.95,0.97) 5(-5.95,0) 6(-5.95,-0.97) 7(-5.95,-1.94) 8(-5.95,-2.91) 9(-5.95,-3.88)
  rect 8x10.45 smd: 10(3.4,0)
Top Overlay:
  circle w0.25: c-5.95,4.73 r0.125
  lines w0.2: -1,-5.2 -2.55,-5.2 -2.55,5.2 -1,5.2
Mechanical 13:
  lines w0.1: -2.55,-5.2 -2.55,5.2 6.19,5.2 6.19,-5.2 -2.55,-5.2
Mechanical 15:
  lines w0.1: -0.5,0 0.5,0 ; 0,-0.5 0,0.5 ; -7.5,-5.35 -7.5,5.35 7.5,5.35 7.5,-5.35 -7.5,-5.35
3D body: height 4.62, standoff 0, extent -2.55,-5.2 6.19,5.2

## TS9A_M [mm] "D2-PAK, 10-Leads, Body 8.7x10.2mm, Pitch 0.97mm, Lead Span 14.1mm, IPC Low Density"
height 4.62
pads (10):
  rect 3.5x0.7 smd: 1(-6.05,3.88) 2(-6.05,2.91) 3(-6.05,1.94) 4(-6.05,0.97) 5(-6.05,0) 6(-6.05,-0.97) 7(-6.05,-1.94) 8(-6.05,-2.91) 9(-6.05,-3.88)
  rect 8.6x10.55 smd: 10(3.5,0)
Top Overlay:
  circle w0.25: c-6.05,4.78 r0.125
  lines w0.2: -1.2,-5.2 -2.45,-5.2 -2.45,5.2 -1.2,5.2
Mechanical 13:
  lines w0.1: -2.45,-5.2 -2.45,5.2 6.29,5.2 6.29,-5.2 -2.45,-5.2
Mechanical 15:
  lines w0.1: -0.5,0 0.5,0 ; 0,-0.5 0,0.5 ; -8.3,-5.75 -8.3,5.75 8.3,5.75 8.3,-5.75 -8.3,-5.75
3D body: height 4.62, standoff 0, extent -2.45,-5.2 6.29,5.2

## TS9A_N [mm] "D2-PAK, 10-Leads, Body 8.7x10.2mm, Pitch 0.97mm, Lead Span 14.1mm, IPC Medium Density"
height 4.62
pads (10):
  rect 3.2x0.65 smd: 1(-6,3.88) 2(-6,2.91) 3(-6,1.94) 4(-6,0.97) 5(-6,0) 6(-6,-0.97) 7(-6,-1.94) 8(-6,-2.91) 9(-6,-3.88)
  rect 8.3x10.5 smd: 10(3.45,0)
Top Overlay:
  circle w0.25: c-6,4.755 r0.125
  lines w0.2: -1.1,-5.2 -2.5,-5.2 -2.5,5.2 -1.1,5.2
Mechanical 13:
  lines w0.1: -2.5,-5.2 -2.5,5.2 6.24,5.2 6.24,-5.2 -2.5,-5.2
Mechanical 15:
  lines w0.1: -0.5,0 0.5,0 ; 0,-0.5 0,0.5 ; -7.85,-5.5 -7.85,5.5 7.85,5.5 7.85,-5.5 -7.85,-5.5
3D body: height 4.62, standoff 0, extent -2.5,-5.2 6.24,5.2

## URA06GGA [mm] "Micro SMD, 6-Leads, Body 1.63x1.13mm, Pitch 0.5mm, NSC Recommended"
height 0.4
pads (6):
  round 0.265 smd paste-0.132 mask+0.05: A1(-0.25,0.5) A2(0.25,0.5) B1(-0.25,0) B2(0.25,0) C1(-0.25,-0.5) C2(0.25,-0.5)
Top Overlay:
  circle w0.1: c-0.67,0.92 r0.05
Top Paste:
  circle w0.05: c0.2,0.6 r0.025
  circle w0.05: c0.35,0.45 r0.025
  circle w0.05: c0.35,0.6 r0.025
  circle w0.05: c0.2,0.45 r0.025
  circle w0.05: c0.35,-0.45 r0.025
  circle w0.05: c0.2,-0.6 r0.025
  circle w0.05: c0.35,-0.6 r0.025
  circle w0.05: c0.2,-0.45 r0.025
  circle w0.05: c-0.2,-0.6 r0.025
  circle w0.05: c-0.35,-0.45 r0.025
  circle w0.05: c-0.35,-0.6 r0.025
  circle w0.05: c-0.2,-0.45 r0.025
  circle w0.05: c-0.35,0.45 r0.025
  circle w0.05: c-0.2,0.6 r0.025
  circle w0.05: c-0.35,0.6 r0.025
  circle w0.05: c-0.2,0.45 r0.025
  circle w0.05: c-0.2,-0.075 r0.025
  circle w0.05: c-0.35,0.075 r0.025
  circle w0.05: c-0.2,0.075 r0.025
  circle w0.05: c-0.35,-0.075 r0.025
  circle w0.05: c0.2,0.075 r0.025
  circle w0.05: c0.35,-0.075 r0.025
  circle w0.05: c0.2,-0.075 r0.025
  circle w0.05: c0.35,0.075 r0.025
  region: 0.35,0.45 0.2,0.45 0.2,0.4 0.35,0.4
  region: 0.35,0.6 0.35,0.45 0.4,0.45 0.4,0.6
  rectangle: 0.2,0.6 0.35,0.65
  region: 0.2,0.45 0.2,0.6 0.15,0.6 0.15,0.45
  region: 0.2,0.6 0.2,0.45 0.35,0.45 0.35,0.6
  region: 0.2,-0.6 0.2,-0.45 0.15,-0.45 0.15,-0.6
  region: 0.35,-0.6 0.2,-0.6 0.2,-0.65 0.35,-0.65
  region: 0.35,-0.45 0.35,-0.6 0.4,-0.6 0.4,-0.45
  rectangle: 0.2,-0.45 0.35,-0.4
  region: 0.35,-0.45 0.2,-0.45 0.2,-0.6 0.35,-0.6
  rectangle: -0.35,-0.45 -0.2,-0.4
  region: -0.35,-0.6 -0.35,-0.45 -0.4,-0.45 -0.4,-0.6
  region: -0.2,-0.6 -0.35,-0.6 -0.35,-0.65 -0.2,-0.65
  region: -0.2,-0.45 -0.2,-0.6 -0.15,-0.6 -0.15,-0.45
  region: -0.2,-0.6 -0.2,-0.45 -0.35,-0.45 -0.35,-0.6
  region: -0.2,0.6 -0.2,0.45 -0.15,0.45 -0.15,0.6
  rectangle: -0.35,0.6 -0.2,0.65
  region: -0.35,0.45 -0.35,0.6 -0.4,0.6 -0.4,0.45
  region: -0.2,0.45 -0.35,0.45 -0.35,0.4 -0.2,0.4
  rectangle: -0.35,0.45 -0.2,0.6
  rectangle: -0.35,-0.075 -0.2,0.075
  region: -0.2,-0.075 -0.35,-0.075 -0.35,-0.125 -0.2,-0.125
  region: -0.35,-0.075 -0.35,0.075 -0.4,0.075 -0.4,-0.075
  rectangle: -0.35,0.075 -0.2,0.125
  region: -0.2,0.075 -0.2,-0.075 -0.15,-0.075 -0.15,0.075
  region: 0.35,0.075 0.2,0.075 0.2,-0.075 0.35,-0.075
  rectangle: 0.2,0.075 0.35,0.125
  region: 0.35,0.075 0.35,-0.075 0.4,-0.075 0.4,0.075
  region: 0.35,-0.075 0.2,-0.075 0.2,-0.125 0.35,-0.125
  region: 0.2,-0.075 0.2,0.075 0.15,0.075 0.15,-0.075
Mechanical 13:
  lines w0.1: -0.565,-0.815 -0.565,0.815 0.565,0.815 0.565,-0.815 -0.565,-0.815
Mechanical 15:
  lines w0.1: -0.5,0 0.5,0 ; 0,-0.5 0,0.5 ; -0.665,-0.915 -0.665,0.915 0.665,0.915 0.665,-0.915 -0.665,-0.915
3D body: height 0.4, standoff 0, extent -0.564,-0.814 0.564,0.814